# Altium schematic symbol library 74HC164.SchLib: 1 symbol
Pins are listed as number, name and electrical type; pins without a type are passive.

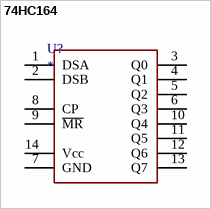
[diagram p0: symbol 74HC164]

## 74HC164
designator U?
8-битный сдвиговый регистр с последовательным входом, параллельным выходом
footprint SOIC-14N (SOIC, 14-Leads, Body 8,65x3,90mm, Pitch 1,27mm, IPC Medium Density)
pins: 1 DSA "Termal Pad", 2 DSB "Termal Pad", 3 Q0 "Termal Pad", 4 Q1 "Termal Pad", 5 Q2 "Termal Pad", 6 Q3 "Termal Pad", 7 GND "Termal Pad", 8 CP "Termal Pad", 9 ~{MR} "Termal Pad", 10 Q4 "Termal Pad", 11 Q5 "Termal Pad", 12 Q6 "Termal Pad", 13 Q7 "Termal Pad", 14 Vcc "Termal Pad"